# Altium schematic symbol library zhaoyujiu.SchLib: 20 symbols
Pins are listed as number, name and electrical type; pins without a type are passive.

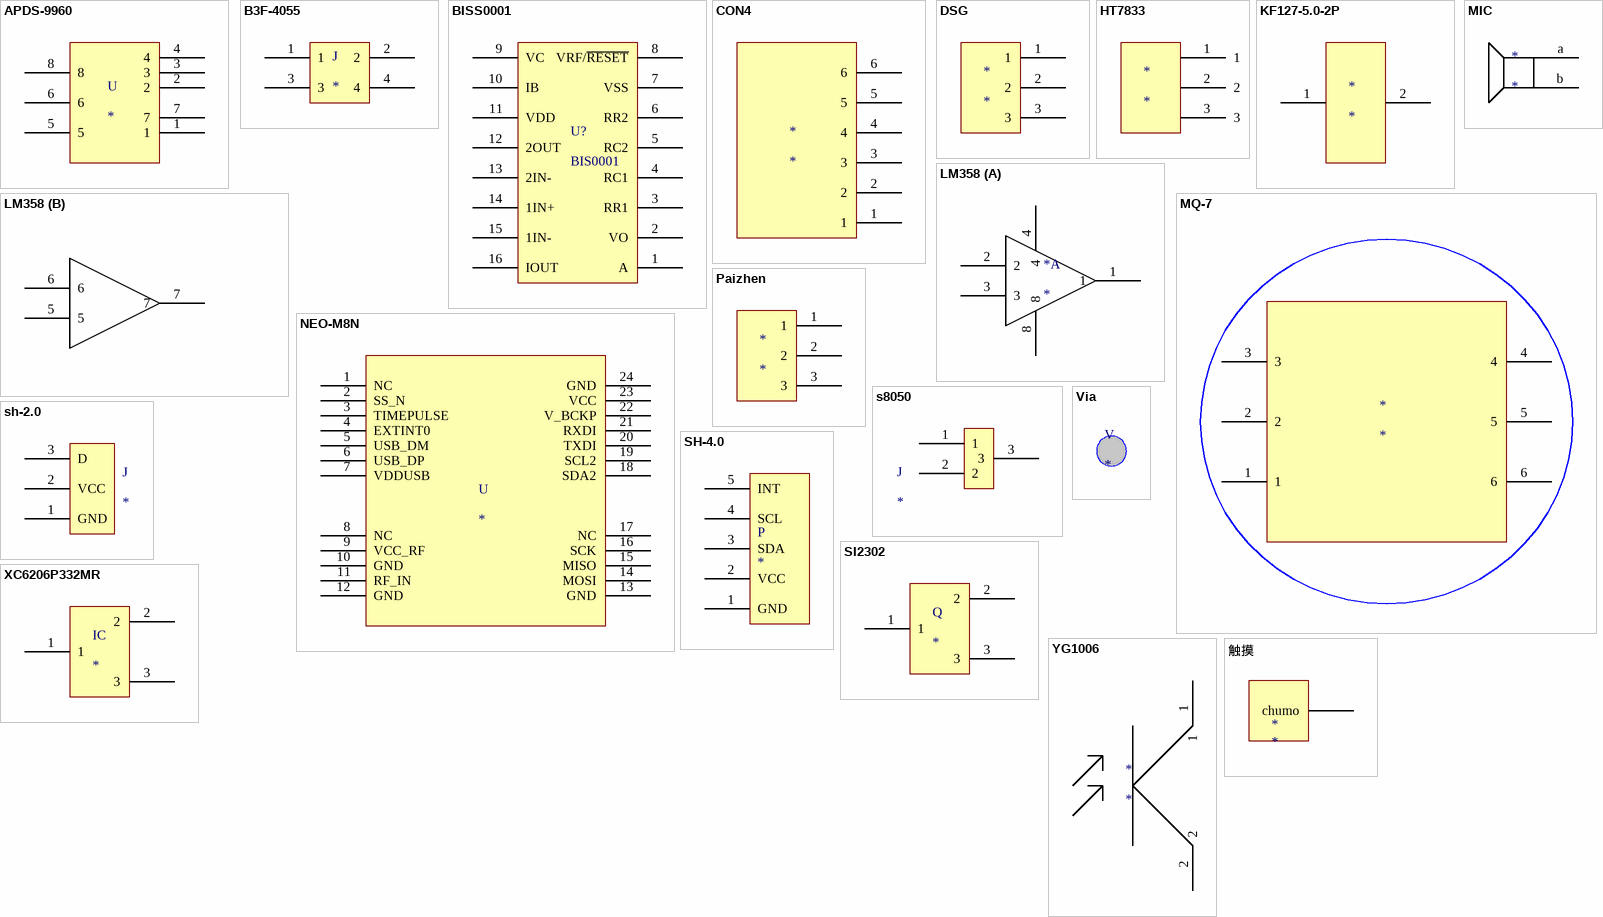
[diagram p0: symbols APDS-9960 to 触摸]

## APDS-9960
designator U
footprint APDS-9960
pins: 1, 2, 3, 4, 5, 6, 7, 8

## B3F-4055
designator J
footprint B3F
pins: 1, 2, 3, 4

## BISS0001
designator U?, comment BIS0001
footprint SOP16
pins: 1 A, 2 VO, 3 RR1, 4 RC1, 5 RC2, 6 RR2, 7 VSS, 8 VRF/~{RESET}, 9 VC, 10 IB, 11 VDD, 12 2OUT, 13 2IN-, 14 1IN+, 15 1IN-, 16 IOUT

## CON4
designator *
pins: 1, 2, 3, 4, 5, 6

## DSG
designator *
footprint DSG
pins: 1, 2, 3

## HT7833
designator *
pins: 1, 2, 3

## KF127-5.0-2P
designator *
footprint DIP2
pins: 1, 2

## LM358
designator *
part A pins: 1, 2, 3, 4, 8
part B pins: 5, 6, 7

## MIC
designator *
footprint Soundsenor
pins: a 1, b 2

## MQ-7
designator *
footprint MQ-7
pins: 1, 2, 3, 4, 5, 6

## NEO-M8N
designator U
footprint NEO-M8N
pins: 1 NC, 2 SS_N, 3 TIMEPULSE, 4 EXTINT0, 5 USB_DM, 6 USB_DP, 7 VDDUSB, 8 NC, 9 VCC_RF, 10 GND, 11 RF_IN, 12 GND, 13 GND, 14 MOSI, 15 MISO, 16 SCK, 17 NC, 18 SDA2, 19 SCL2, 20 TXDI, 21 RXDI, 22 V_BCKP, 23 VCC, 24 GND

## Paizhen
designator *
footprint Paizhen
pins: 1, 2, 3

## s8050
designator J
footprint SOT-23
pins: 1, 2, 3

## sh-2.0
designator J
footprint sh-2.0
pins: 1 GND, 2 VCC, 3 D

## SH-4.0
designator P
footprint SH-4.0
pins: 1 GND, 2 VCC, 3 SDA, 4 SCL, 5 INT

## SI2302
designator Q
footprint SOT-23
pins: 1, 2, 3

## Via
designator V
footprint Via

## XC6206P332MR
designator IC
footprint SOT-23
pins: 1, 2, 3

## YG1006
designator *
footprint Q
pins: 1, 2

## 触摸
designator *
footprint 触摸
pins: ?1 chumo